# EAGLE library part TPA731D (library TPA731D)
700-mW Mono, Differential Input, Class-AB Audio Amplifier with Active High Shutdown Source: Datasheet <http://www.ti.com/lit/gpn/tpa731>
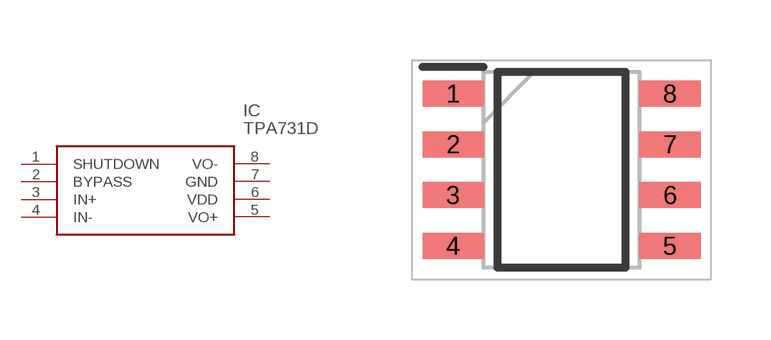
[diagram p0: symbol with the pads of SOIC127P600X175-8N; footprint SOIC127P600X175-8N]

Designator prefix IC

## TPA731D (Description: 700-mW Mono, Differential Input, Class-AB Audio Amplifier with Active High Shutdown; Height: 1.75mm; Manufacturer_Name: Texas Instruments; Manufacturer_Part_Number: TPA731D; Mouser_Part_Number: 595-TPA731D; Mouser_Price-Stock: https://www.mouser.com/Search/Refine.aspx?Keyword=595-TPA731D)  [SOIC127P600X175-8N]
1  SHUTDOWN  in
2  BYPASS  in
3  IN+  in
4  IN-  in
5  VO+  out
6  VDD  pwr
7  GND  pwr
8  VO-  out

## Footprint SOIC127P600X175-8N (pad centres in mm)
8-SOIC
smd 1.528 x 0.65: 1 -2.711,1.905; 2 -2.711,0.635; 3 -2.711,-0.635; 4 -2.711,-1.905; 5 2.711,-1.905; 6 2.711,-0.635; 7 2.711,0.635; 8 2.711,1.905